# Altium schematic symbol library PSMN1R2-30YLC.Schlib: 1 symbol
Pins are listed as number, name and electrical type; pins without a type are passive.

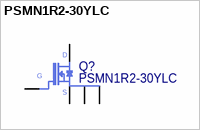
[diagram p0: symbol PSMN1R2-30YLC]

## PSMN1R2-30YLC
designator Q?
pins: 1 S, 2 S, 3 S, 4 G, 5 D